# Altium footprint library memory-sram.PCBLIB: 19 footprints (part 2 of 2)
Each footprint in its own frame and in the unit in brackets; x right, y up, seen from the top. Pads: shape width x height; smd on the part's side, far side on the other; paste and mask are expansions set on the pad; w line width, h text height; cw(c..) or ccw(c..) is an arc to the next point about the centre after c.
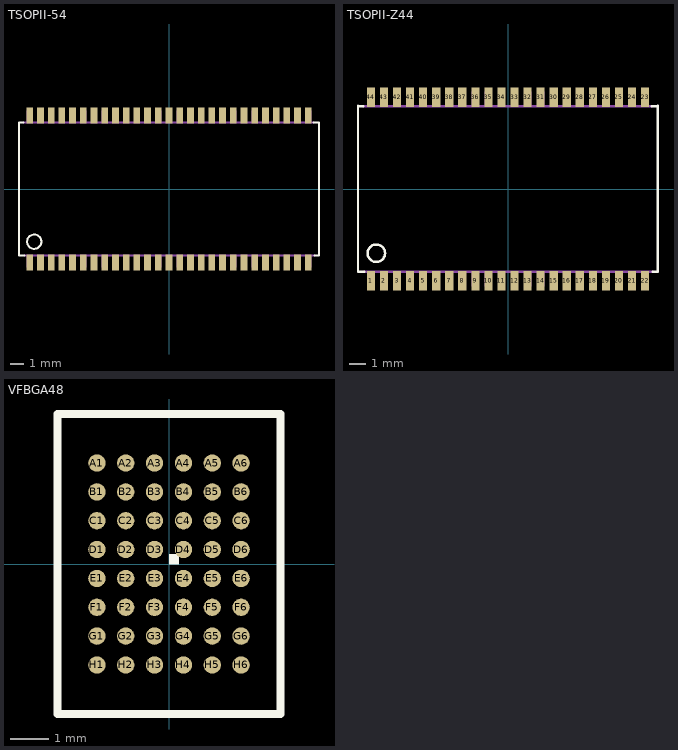
[diagram p1: the footprints below, top view; thin cyan lines are the x and y axes]

## TSOPII-54 [mm]
pads (54):
  rect 0.5x1.2 smd: 1(-10.4,-5.502) 2(-9.6,-5.502) 3(-8.8,-5.502) 4(-8,-5.502) 5(-7.2,-5.502) 6(-6.4,-5.502) 7(-5.6,-5.502) 8(-4.8,-5.502) 9(-4,-5.502) 10(-3.2,-5.502) 11(-2.4,-5.502) 12(-1.6,-5.502) 13(-0.8,-5.502) 14(0,-5.502) 15(0.8,-5.502) 16(1.6,-5.502) 17(2.4,-5.502) 18(3.2,-5.502) 19(4,-5.502) 20(4.8,-5.502) 21(5.6,-5.502) 22(6.4,-5.502) 23(7.2,-5.502) 24(8,-5.502) 25(8.8,-5.502) 26(9.6,-5.502) 27(10.4,-5.502) 28(10.4,5.502) 29(9.6,5.502) 30(8.8,5.502) 31(8,5.502) 32(7.2,5.502) 33(6.4,5.502) 34(5.6,5.502) 35(4.8,5.502) 36(4,5.502) 37(3.2,5.502) 38(2.4,5.502) 39(1.6,5.502) 40(0.8,5.502) 41(0,5.502) 42(-0.8,5.502) 43(-1.6,5.502) 44(-2.4,5.502) 45(-3.2,5.502) 46(-4,5.502) 47(-4.8,5.502) 48(-5.6,5.502) 49(-6.4,5.502) 50(-7.2,5.502) 51(-8,5.502) 52(-8.8,5.502) 53(-9.6,5.502) 54(-10.4,5.502)
Top Overlay:
  circle w0.152: c-10.065,-3.935 r0.533
  lines w0.152: -10.875,4.95 -11.2,4.95 -11.2,-4.95 -10.8,-4.95 ; 10.8,4.95 11.2,4.95 11.2,-4.95 10.85,-4.95
Top Paste:
  rectangle: -10.625,-6.05 -10.175,-4.925
  rectangle: -9.825,-6.05 -9.375,-4.925
  rectangle: -9.025,-6.05 -8.575,-4.925
  rectangle: -8.225,-6.05 -7.775,-4.925
  rectangle: -7.425,-6.05 -6.975,-4.925
  rectangle: -6.625,-6.05 -6.175,-4.925
  rectangle: -5.825,-6.05 -5.375,-4.925
  rectangle: -5.025,-6.05 -4.575,-4.925
  rectangle: -4.225,-6.05 -3.775,-4.925
  rectangle: -3.425,-6.05 -2.975,-4.925
  rectangle: -2.625,-6.05 -2.175,-4.925
  rectangle: -1.825,-6.05 -1.375,-4.925
  rectangle: -1.025,-6.05 -0.575,-4.925
  rectangle: -0.225,-6.05 0.225,-4.925
  rectangle: 0.575,-6.05 1.025,-4.925
  rectangle: 1.375,-6.05 1.825,-4.925
  rectangle: 2.175,-6.05 2.625,-4.925
  rectangle: 2.975,-6.05 3.425,-4.925
  rectangle: 3.775,-6.05 4.225,-4.925
  rectangle: 4.575,-6.05 5.025,-4.925
  rectangle: 5.375,-6.05 5.825,-4.925
  rectangle: 6.175,-6.05 6.625,-4.925
  rectangle: 6.975,-6.05 7.425,-4.925
  rectangle: 7.775,-6.05 8.225,-4.925
  rectangle: 8.575,-6.05 9.025,-4.925
  rectangle: 9.375,-6.05 9.825,-4.925
  rectangle: 10.175,-6.05 10.625,-4.925
  region: 10.625,6.05 10.175,6.05 10.175,4.925 10.625,4.925
  region: 9.825,6.05 9.375,6.05 9.375,4.925 9.825,4.925
  region: 9.025,6.05 8.575,6.05 8.575,4.925 9.025,4.925
  region: 8.225,6.05 7.775,6.05 7.775,4.925 8.225,4.925
  region: 7.425,6.05 6.975,6.05 6.975,4.925 7.425,4.925
  region: 6.625,6.05 6.175,6.05 6.175,4.925 6.625,4.925
  region: 5.825,6.05 5.375,6.05 5.375,4.925 5.825,4.925
  region: 5.025,6.05 4.575,6.05 4.575,4.925 5.025,4.925
  region: 4.225,6.05 3.775,6.05 3.775,4.925 4.225,4.925
  region: 3.425,6.05 2.975,6.05 2.975,4.925 3.425,4.925
  region: 2.625,6.05 2.175,6.05 2.175,4.925 2.625,4.925
  region: 1.825,6.05 1.375,6.05 1.375,4.925 1.825,4.925
  region: 1.025,6.05 0.575,6.05 0.575,4.925 1.025,4.925
  region: 0.225,6.05 -0.225,6.05 -0.225,4.925 0.225,4.925
  region: -0.575,6.05 -1.025,6.05 -1.025,4.925 -0.575,4.925
  region: -1.375,6.05 -1.825,6.05 -1.825,4.925 -1.375,4.925
  region: -2.175,6.05 -2.625,6.05 -2.625,4.925 -2.175,4.925
  region: -2.975,6.05 -3.425,6.05 -3.425,4.925 -2.975,4.925
  region: -3.775,6.05 -4.225,6.05 -4.225,4.925 -3.775,4.925
  region: -4.575,6.05 -5.025,6.05 -5.025,4.925 -4.575,4.925
  region: -5.375,6.05 -5.825,6.05 -5.825,4.925 -5.375,4.925
  region: -6.175,6.05 -6.625,6.05 -6.625,4.925 -6.175,4.925
  region: -6.975,6.05 -7.425,6.05 -7.425,4.925 -6.975,4.925
  region: -7.775,6.05 -8.225,6.05 -8.225,4.925 -7.775,4.925
  region: -8.575,6.05 -9.025,6.05 -9.025,4.925 -8.575,4.925
  region: -9.375,6.05 -9.825,6.05 -9.825,4.925 -9.375,4.925
  region: -10.175,6.05 -10.625,6.05 -10.625,4.925 -10.175,4.925
Top Solder:
  rectangle: -10.725,-6.175 -10.075,-4.85
  rectangle: -9.925,-6.175 -9.275,-4.85
  rectangle: -9.125,-6.175 -8.475,-4.85
  rectangle: -8.325,-6.175 -7.675,-4.85
  rectangle: -7.525,-6.175 -6.875,-4.85
  rectangle: -6.725,-6.175 -6.075,-4.85
  rectangle: -5.925,-6.175 -5.275,-4.85
  rectangle: -5.125,-6.175 -4.475,-4.85
  rectangle: -4.325,-6.175 -3.675,-4.85
  rectangle: -3.525,-6.175 -2.875,-4.85
  rectangle: -2.725,-6.175 -2.075,-4.85
  rectangle: -1.925,-6.175 -1.275,-4.85
  rectangle: -1.125,-6.175 -0.475,-4.85
  rectangle: -0.325,-6.175 0.325,-4.85
  rectangle: 0.475,-6.175 1.125,-4.85
  rectangle: 1.275,-6.175 1.925,-4.85
  rectangle: 2.075,-6.175 2.725,-4.85
  rectangle: 2.875,-6.175 3.525,-4.85
  rectangle: 3.675,-6.175 4.325,-4.85
  rectangle: 4.475,-6.175 5.125,-4.85
  rectangle: 5.275,-6.175 5.925,-4.85
  rectangle: 6.075,-6.175 6.725,-4.85
  rectangle: 6.875,-6.175 7.525,-4.85
  rectangle: 7.675,-6.175 8.325,-4.85
  rectangle: 8.475,-6.175 9.125,-4.85
  rectangle: 9.275,-6.175 9.925,-4.85
  rectangle: 10.075,-6.175 10.725,-4.85
  region: 10.725,6.175 10.075,6.175 10.075,4.85 10.725,4.85
  region: 9.925,6.175 9.275,6.175 9.275,4.85 9.925,4.85
  region: 9.125,6.175 8.475,6.175 8.475,4.85 9.125,4.85
  region: 8.325,6.175 7.675,6.175 7.675,4.85 8.325,4.85
  region: 7.525,6.175 6.875,6.175 6.875,4.85 7.525,4.85
  region: 6.725,6.175 6.075,6.175 6.075,4.85 6.725,4.85
  region: 5.925,6.175 5.275,6.175 5.275,4.85 5.925,4.85
  region: 5.125,6.175 4.475,6.175 4.475,4.85 5.125,4.85
  region: 4.325,6.175 3.675,6.175 3.675,4.85 4.325,4.85
  region: 3.525,6.175 2.875,6.175 2.875,4.85 3.525,4.85
  region: 2.725,6.175 2.075,6.175 2.075,4.85 2.725,4.85
  region: 1.925,6.175 1.275,6.175 1.275,4.85 1.925,4.85
  region: 1.125,6.175 0.475,6.175 0.475,4.85 1.125,4.85
  region: 0.325,6.175 -0.325,6.175 -0.325,4.85 0.325,4.85
  region: -0.475,6.175 -1.125,6.175 -1.125,4.85 -0.475,4.85
  region: -1.275,6.175 -1.925,6.175 -1.925,4.85 -1.275,4.85
  region: -2.075,6.175 -2.725,6.175 -2.725,4.85 -2.075,4.85
  region: -2.875,6.175 -3.525,6.175 -3.525,4.85 -2.875,4.85
  region: -3.675,6.175 -4.325,6.175 -4.325,4.85 -3.675,4.85
  region: -4.475,6.175 -5.125,6.175 -5.125,4.85 -4.475,4.85
  region: -5.275,6.175 -5.925,6.175 -5.925,4.85 -5.275,4.85
  region: -6.075,6.175 -6.725,6.175 -6.725,4.85 -6.075,4.85
  region: -6.875,6.175 -7.525,6.175 -7.525,4.85 -6.875,4.85
  region: -7.675,6.175 -8.325,6.175 -8.325,4.85 -7.675,4.85
  region: -8.475,6.175 -9.125,6.175 -9.125,4.85 -8.475,4.85
  region: -9.275,6.175 -9.925,6.175 -9.925,4.85 -9.275,4.85
  region: -10.075,6.175 -10.725,6.175 -10.725,4.85 -10.075,4.85
Mechanical 16:
  rectangle: -10.625,-5.863 -10.175,-4.975
  rectangle: -9.825,-5.863 -9.375,-4.975
  rectangle: -9.025,-5.863 -8.575,-4.975
  rectangle: -8.225,-5.863 -7.775,-4.975
  rectangle: -7.425,-5.863 -6.975,-4.975
  rectangle: -6.625,-5.863 -6.175,-4.975
  rectangle: -5.825,-5.863 -5.375,-4.975
  rectangle: -5.025,-5.863 -4.575,-4.975
  rectangle: -4.225,-5.863 -3.775,-4.975
  rectangle: -3.425,-5.863 -2.975,-4.975
  rectangle: -2.625,-5.863 -2.175,-4.975
  rectangle: -1.825,-5.863 -1.375,-4.975
  rectangle: -1.025,-5.863 -0.575,-4.975
  rectangle: -0.225,-5.863 0.225,-4.975
  rectangle: 0.575,-5.863 1.025,-4.975
  rectangle: 1.375,-5.863 1.825,-4.975
  rectangle: 2.175,-5.863 2.625,-4.975
  rectangle: 2.975,-5.863 3.425,-4.975
  rectangle: 3.775,-5.863 4.225,-4.975
  rectangle: 4.575,-5.863 5.025,-4.975
  rectangle: 5.375,-5.863 5.825,-4.975
  rectangle: 6.175,-5.863 6.625,-4.975
  rectangle: 6.975,-5.863 7.425,-4.975
  rectangle: 7.775,-5.863 8.225,-4.975
  rectangle: 8.575,-5.863 9.025,-4.975
  rectangle: 9.375,-5.863 9.825,-4.975
  rectangle: 10.175,-5.863 10.625,-4.975
  region: 10.625,5.863 10.175,5.863 10.175,4.975 10.625,4.975
  region: 9.825,5.863 9.375,5.863 9.375,4.975 9.825,4.975
  region: 9.025,5.863 8.575,5.863 8.575,4.975 9.025,4.975
  region: 8.225,5.863 7.775,5.863 7.775,4.975 8.225,4.975
  region: 7.425,5.863 6.975,5.863 6.975,4.975 7.425,4.975
  region: 6.625,5.863 6.175,5.863 6.175,4.975 6.625,4.975
  region: 5.825,5.863 5.375,5.863 5.375,4.975 5.825,4.975
  region: 5.025,5.863 4.575,5.863 4.575,4.975 5.025,4.975
  region: 4.225,5.863 3.775,5.863 3.775,4.975 4.225,4.975
  region: 3.425,5.863 2.975,5.863 2.975,4.975 3.425,4.975
  region: 2.625,5.863 2.175,5.863 2.175,4.975 2.625,4.975
  region: 1.825,5.863 1.375,5.863 1.375,4.975 1.825,4.975
  region: 1.025,5.863 0.575,5.863 0.575,4.975 1.025,4.975
  region: 0.225,5.863 -0.225,5.863 -0.225,4.975 0.225,4.975
  region: -0.575,5.863 -1.025,5.863 -1.025,4.975 -0.575,4.975
  region: -1.375,5.863 -1.825,5.863 -1.825,4.975 -1.375,4.975
  region: -2.175,5.863 -2.625,5.863 -2.625,4.975 -2.175,4.975
  region: -2.975,5.863 -3.425,5.863 -3.425,4.975 -2.975,4.975
  region: -3.775,5.863 -4.225,5.863 -4.225,4.975 -3.775,4.975
  region: -4.575,5.863 -5.025,5.863 -5.025,4.975 -4.575,4.975
  region: -5.375,5.863 -5.825,5.863 -5.825,4.975 -5.375,4.975
  region: -6.175,5.863 -6.625,5.863 -6.625,4.975 -6.175,4.975
  region: -6.975,5.863 -7.425,5.863 -7.425,4.975 -6.975,4.975
  region: -7.775,5.863 -8.225,5.863 -8.225,4.975 -7.775,4.975
  region: -8.575,5.863 -9.025,5.863 -9.025,4.975 -8.575,4.975
  region: -9.375,5.863 -9.825,5.863 -9.825,4.975 -9.375,4.975
  region: -10.175,5.863 -10.625,5.863 -10.625,4.975 -10.175,4.975
  lines w0.152: -10.85,4.95 10.8,4.95 ; -10.8,-4.95 10.85,-4.95

## TSOPII-Z44 [mm]
pads (44):
  rect 0.5x1.2 smd: 1(-8.4,-5.627) 2(-7.6,-5.627) 3(-6.8,-5.627) 4(-6,-5.627) 5(-5.2,-5.627) 6(-4.4,-5.627) 7(-3.6,-5.627) 8(-2.8,-5.627) 9(-2,-5.627) 10(-1.2,-5.627) 11(-0.4,-5.627) 12(0.4,-5.627) 13(1.2,-5.627) 14(2,-5.627) 15(2.8,-5.627) 16(3.6,-5.627) 17(4.4,-5.627) 18(5.2,-5.627) 19(6,-5.627) 20(6.8,-5.627) 21(7.6,-5.627) 22(8.4,-5.627) 23(8.4,5.627) 24(7.6,5.627) 25(6.8,5.627) 26(6,5.627) 27(5.2,5.627) 28(4.4,5.627) 29(3.6,5.627) 30(2.8,5.627) 31(2,5.627) 32(1.2,5.627) 33(0.4,5.627) 34(-0.4,5.627) 35(-1.2,5.627) 36(-2,5.627) 37(-2.8,5.627) 38(-3.6,5.627) 39(-4.4,5.627) 40(-5.2,5.627) 41(-6,5.627) 42(-6.8,5.627) 43(-7.6,5.627) 44(-8.4,5.627)
Top Overlay:
  circle w0.152: c-8.065,-3.935 r0.533
  lines w0.152: -9.19,5.106 -9.19,-5.079 -8.807,-5.079 ; -9.189,5.079 -8.882,5.079 ; 8.807,5.079 9.19,5.079 ; 8.882,-5.079 9.189,-5.079 9.189,5.106
Top Paste:
  rectangle: -8.625,-6.175 -8.175,-5.05
  rectangle: -7.825,-6.175 -7.375,-5.05
  rectangle: -7.025,-6.175 -6.575,-5.05
  rectangle: -6.225,-6.175 -5.775,-5.05
  rectangle: -5.425,-6.175 -4.975,-5.05
  rectangle: -4.625,-6.175 -4.175,-5.05
  rectangle: -3.825,-6.175 -3.375,-5.05
  rectangle: -3.025,-6.175 -2.575,-5.05
  rectangle: -2.225,-6.175 -1.775,-5.05
  rectangle: -1.425,-6.175 -0.975,-5.05
  rectangle: -0.625,-6.175 -0.175,-5.05
  rectangle: 0.175,-6.175 0.625,-5.05
  rectangle: 0.975,-6.175 1.425,-5.05
  rectangle: 1.775,-6.175 2.225,-5.05
  rectangle: 2.575,-6.175 3.025,-5.05
  rectangle: 3.375,-6.175 3.825,-5.05
  rectangle: 4.175,-6.175 4.625,-5.05
  rectangle: 4.975,-6.175 5.425,-5.05
  rectangle: 5.775,-6.175 6.225,-5.05
  rectangle: 6.575,-6.175 7.025,-5.05
  rectangle: 7.375,-6.175 7.825,-5.05
  rectangle: 8.175,-6.175 8.625,-5.05
  region: 8.625,6.175 8.175,6.175 8.175,5.05 8.625,5.05
  region: 7.825,6.175 7.375,6.175 7.375,5.05 7.825,5.05
  region: 7.025,6.175 6.575,6.175 6.575,5.05 7.025,5.05
  region: 6.225,6.175 5.775,6.175 5.775,5.05 6.225,5.05
  region: 5.425,6.175 4.975,6.175 4.975,5.05 5.425,5.05
  region: 4.625,6.175 4.175,6.175 4.175,5.05 4.625,5.05
  region: 3.825,6.175 3.375,6.175 3.375,5.05 3.825,5.05
  region: 3.025,6.175 2.575,6.175 2.575,5.05 3.025,5.05
  region: 2.225,6.175 1.775,6.175 1.775,5.05 2.225,5.05
  region: 1.425,6.175 0.975,6.175 0.975,5.05 1.425,5.05
  region: 0.625,6.175 0.175,6.175 0.175,5.05 0.625,5.05
  region: -0.175,6.175 -0.625,6.175 -0.625,5.05 -0.175,5.05
  region: -0.975,6.175 -1.425,6.175 -1.425,5.05 -0.975,5.05
  region: -1.775,6.175 -2.225,6.175 -2.225,5.05 -1.775,5.05
  region: -2.575,6.175 -3.025,6.175 -3.025,5.05 -2.575,5.05
  region: -3.375,6.175 -3.825,6.175 -3.825,5.05 -3.375,5.05
  region: -4.175,6.175 -4.625,6.175 -4.625,5.05 -4.175,5.05
  region: -4.975,6.175 -5.425,6.175 -5.425,5.05 -4.975,5.05
  region: -5.775,6.175 -6.225,6.175 -6.225,5.05 -5.775,5.05
  region: -6.575,6.175 -7.025,6.175 -7.025,5.05 -6.575,5.05
  region: -7.375,6.175 -7.825,6.175 -7.825,5.05 -7.375,5.05
  region: -8.175,6.175 -8.625,6.175 -8.625,5.05 -8.175,5.05
Top Solder:
  rectangle: -8.725,-6.3 -8.075,-4.975
  rectangle: -7.925,-6.3 -7.275,-4.975
  rectangle: -7.125,-6.3 -6.475,-4.975
  rectangle: -6.325,-6.3 -5.675,-4.975
  rectangle: -5.525,-6.3 -4.875,-4.975
  rectangle: -4.725,-6.3 -4.075,-4.975
  rectangle: -3.925,-6.3 -3.275,-4.975
  rectangle: -3.125,-6.3 -2.475,-4.975
  rectangle: -2.325,-6.3 -1.675,-4.975
  rectangle: -1.525,-6.3 -0.875,-4.975
  rectangle: -0.725,-6.3 -0.075,-4.975
  rectangle: 0.075,-6.3 0.725,-4.975
  rectangle: 0.875,-6.3 1.525,-4.975
  rectangle: 1.675,-6.3 2.325,-4.975
  rectangle: 2.475,-6.3 3.125,-4.975
  rectangle: 3.275,-6.3 3.925,-4.975
  rectangle: 4.075,-6.3 4.725,-4.975
  rectangle: 4.875,-6.3 5.525,-4.975
  rectangle: 5.675,-6.3 6.325,-4.975
  rectangle: 6.475,-6.3 7.125,-4.975
  rectangle: 7.275,-6.3 7.925,-4.975
  rectangle: 8.075,-6.3 8.725,-4.975
  region: 8.725,6.3 8.075,6.3 8.075,4.975 8.725,4.975
  region: 7.925,6.3 7.275,6.3 7.275,4.975 7.925,4.975
  region: 7.125,6.3 6.475,6.3 6.475,4.975 7.125,4.975
  region: 6.325,6.3 5.675,6.3 5.675,4.975 6.325,4.975
  region: 5.525,6.3 4.875,6.3 4.875,4.975 5.525,4.975
  region: 4.725,6.3 4.075,6.3 4.075,4.975 4.725,4.975
  region: 3.925,6.3 3.275,6.3 3.275,4.975 3.925,4.975
  region: 3.125,6.3 2.475,6.3 2.475,4.975 3.125,4.975
  region: 2.325,6.3 1.675,6.3 1.675,4.975 2.325,4.975
  region: 1.525,6.3 0.875,6.3 0.875,4.975 1.525,4.975
  region: 0.725,6.3 0.075,6.3 0.075,4.975 0.725,4.975
  region: -0.075,6.3 -0.725,6.3 -0.725,4.975 -0.075,4.975
  region: -0.875,6.3 -1.525,6.3 -1.525,4.975 -0.875,4.975
  region: -1.675,6.3 -2.325,6.3 -2.325,4.975 -1.675,4.975
  region: -2.475,6.3 -3.125,6.3 -3.125,4.975 -2.475,4.975
  region: -3.275,6.3 -3.925,6.3 -3.925,4.975 -3.275,4.975
  region: -4.075,6.3 -4.725,6.3 -4.725,4.975 -4.075,4.975
  region: -4.875,6.3 -5.525,6.3 -5.525,4.975 -4.875,4.975
  region: -5.675,6.3 -6.325,6.3 -6.325,4.975 -5.675,4.975
  region: -6.475,6.3 -7.125,6.3 -7.125,4.975 -6.475,4.975
  region: -7.275,6.3 -7.925,6.3 -7.925,4.975 -7.275,4.975
  region: -8.075,6.3 -8.725,6.3 -8.725,4.975 -8.075,4.975
Mechanical 16:
  rectangle: -8.625,-5.988 -8.175,-5.1
  rectangle: -7.825,-5.988 -7.375,-5.1
  rectangle: -7.025,-5.988 -6.575,-5.1
  rectangle: -6.225,-5.988 -5.775,-5.1
  rectangle: -5.425,-5.988 -4.975,-5.1
  rectangle: -4.625,-5.988 -4.175,-5.1
  rectangle: -3.825,-5.988 -3.375,-5.1
  rectangle: -3.025,-5.988 -2.575,-5.1
  rectangle: -2.225,-5.988 -1.775,-5.1
  rectangle: -1.425,-5.988 -0.975,-5.1
  rectangle: -0.625,-5.988 -0.175,-5.1
  rectangle: 0.175,-5.988 0.625,-5.1
  rectangle: 0.975,-5.988 1.425,-5.1
  rectangle: 1.775,-5.988 2.225,-5.1
  rectangle: 2.575,-5.988 3.025,-5.1
  rectangle: 3.375,-5.988 3.825,-5.1
  rectangle: 4.175,-5.988 4.625,-5.1
  rectangle: 4.975,-5.988 5.425,-5.1
  rectangle: 5.775,-5.988 6.225,-5.1
  rectangle: 6.575,-5.988 7.025,-5.1
  rectangle: 7.375,-5.988 7.825,-5.1
  rectangle: 8.175,-5.988 8.625,-5.1
  region: 8.625,5.988 8.175,5.988 8.175,5.1 8.625,5.1
  region: 7.825,5.988 7.375,5.988 7.375,5.1 7.825,5.1
  region: 7.025,5.988 6.575,5.988 6.575,5.1 7.025,5.1
  region: 6.225,5.988 5.775,5.988 5.775,5.1 6.225,5.1
  region: 5.425,5.988 4.975,5.988 4.975,5.1 5.425,5.1
  region: 4.625,5.988 4.175,5.988 4.175,5.1 4.625,5.1
  region: 3.825,5.988 3.375,5.988 3.375,5.1 3.825,5.1
  region: 3.025,5.988 2.575,5.988 2.575,5.1 3.025,5.1
  region: 2.225,5.988 1.775,5.988 1.775,5.1 2.225,5.1
  region: 1.425,5.988 0.975,5.988 0.975,5.1 1.425,5.1
  region: 0.625,5.988 0.175,5.988 0.175,5.1 0.625,5.1
  region: -0.175,5.988 -0.625,5.988 -0.625,5.1 -0.175,5.1
  region: -0.975,5.988 -1.425,5.988 -1.425,5.1 -0.975,5.1
  region: -1.775,5.988 -2.225,5.988 -2.225,5.1 -1.775,5.1
  region: -2.575,5.988 -3.025,5.988 -3.025,5.1 -2.575,5.1
  region: -3.375,5.988 -3.825,5.988 -3.825,5.1 -3.375,5.1
  region: -4.175,5.988 -4.625,5.988 -4.625,5.1 -4.175,5.1
  region: -4.975,5.988 -5.425,5.988 -5.425,5.1 -4.975,5.1
  region: -5.775,5.988 -6.225,5.988 -6.225,5.1 -5.775,5.1
  region: -6.575,5.988 -7.025,5.988 -7.025,5.1 -6.575,5.1
  region: -7.375,5.988 -7.825,5.988 -7.825,5.1 -7.375,5.1
  region: -8.175,5.988 -8.625,5.988 -8.625,5.1 -8.175,5.1
  lines w0.152: -8.882,5.079 8.807,5.079 ; -8.807,-5.079 8.882,-5.079

## VFBGA48 [mil]
pads (48):
  rrect100% 17.72x17.72 smd: A1(-73.82,103.35) A2(-44.29,103.35) A3(-14.76,103.35) A4(14.76,103.35) A5(44.29,103.35) A6(73.82,103.35) B1(-73.82,73.82) B2(-44.29,73.82) B3(-14.76,73.82) B4(14.76,73.82) B5(44.29,73.82) B6(73.82,73.82) C1(-73.82,44.29) C2(-44.29,44.29) C3(-14.76,44.29) C4(14.76,44.29) C5(44.29,44.29) C6(73.82,44.29) D1(-73.82,14.76) D2(-44.29,14.76) D3(-14.76,14.76) D4(14.76,14.76) D5(44.29,14.76) D6(73.82,14.76) E1(-73.82,-14.76) E2(-44.29,-14.76) E3(-14.76,-14.76) E4(14.76,-14.76) E5(44.29,-14.76) E6(73.82,-14.76) F1(-73.82,-44.29) F2(-44.29,-44.29) F3(-14.76,-44.29) F4(14.76,-44.29) F5(44.29,-44.29) F6(73.82,-44.29) G1(-73.82,-73.82) G2(-44.29,-73.82) G3(-14.76,-73.82) G4(14.76,-73.82) G5(44.29,-73.82) G6(73.82,-73.82) H1(-73.82,-103.35) H2(-44.29,-103.35) H3(-14.76,-103.35) H4(14.76,-103.35) H5(44.29,-103.35) H6(73.82,-103.35)
Top Overlay:
  region: 0,0 10,0 10,10 0,10
  lines w8: -114.17,-153.54 114.17,-153.54 114.17,153.54 -114.17,153.54 -114.17,-153.54
Top Solder:
  circle w0: c-73.82,103.35 r8.86
  circle w0: c-73.82,73.82 r8.86
  circle w0: c-73.82,44.29 r8.86
  circle w0: c-73.82,14.76 r8.86
  circle w0: c-73.82,-14.76 r8.86
  circle w0: c-73.82,-44.29 r8.86
  circle w0: c-73.82,-73.82 r8.86
  circle w0: c-73.82,-103.35 r8.86
  circle w0: c-44.29,103.35 r8.86
  circle w0: c-44.29,73.82 r8.86
  circle w0: c-44.29,44.29 r8.86
  circle w0: c-44.29,14.76 r8.86
  circle w0: c-44.29,-14.76 r8.86
  circle w0: c-44.29,-44.29 r8.86
  circle w0: c-44.29,-73.82 r8.86
  circle w0: c-44.29,-103.35 r8.86
  circle w0: c-14.76,103.35 r8.86
  circle w0: c-14.76,73.82 r8.86
  circle w0: c-14.76,44.29 r8.86
  circle w0: c-14.76,14.76 r8.86
  circle w0: c-14.76,-14.76 r8.86
  circle w0: c-14.76,-44.29 r8.86
  circle w0: c-14.76,-73.82 r8.86
  circle w0: c-14.76,-103.35 r8.86
  circle w0: c14.76,103.35 r8.86
  circle w0: c14.76,73.82 r8.86
  circle w0: c14.76,44.29 r8.86
  circle w0: c14.76,14.76 r8.86
  circle w0: c14.76,-14.76 r8.86
  circle w0: c14.76,-44.29 r8.86
  circle w0: c14.76,-73.82 r8.86
  circle w0: c14.76,-103.35 r8.86
  circle w0: c44.29,103.35 r8.86
  circle w0: c44.29,73.82 r8.86
  circle w0: c44.29,44.29 r8.86
  circle w0: c44.29,14.76 r8.86
  circle w0: c44.29,-14.76 r8.86
  circle w0: c44.29,-44.29 r8.86
  circle w0: c44.29,-73.82 r8.86
  circle w0: c44.29,-103.35 r8.86
  circle w0: c73.82,103.35 r8.86
  circle w0: c73.82,73.82 r8.86
  circle w0: c73.82,44.29 r8.86
  circle w0: c73.82,14.76 r8.86
  circle w0: c73.82,-14.76 r8.86
  circle w0: c73.82,-44.29 r8.86
  circle w0: c73.82,-73.82 r8.86
  circle w0: c73.82,-103.35 r8.86